# Altium footprint library PcbLib1.PcbLib: 1 footprints
Each footprint in its own frame and in the unit in brackets; x right, y up, seen from the top. Pads: shape width x height; smd on the part's side, far side on the other; paste and mask are expansions set on the pad; w line width, h text height; cw(c..) or ccw(c..) is an arc to the next point about the centre after c.
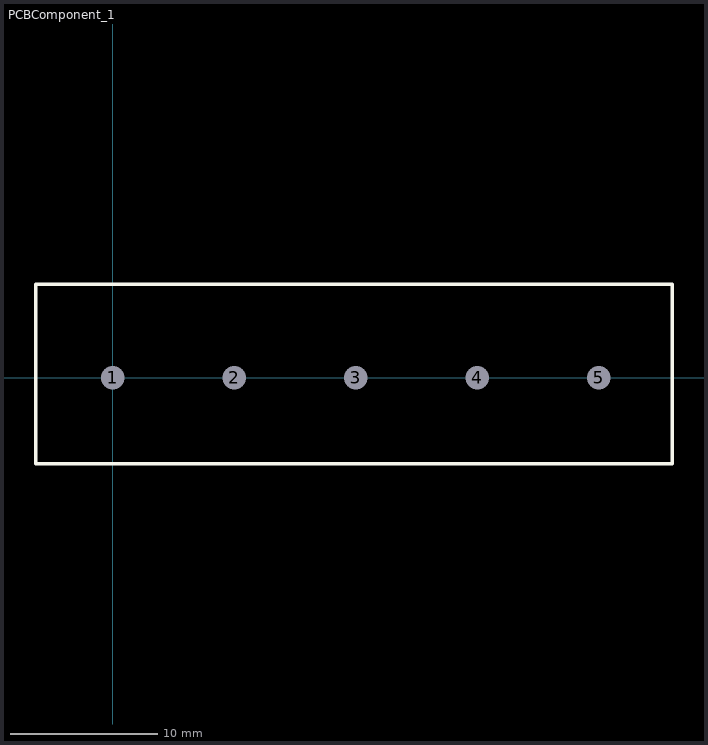
[diagram p0: the footprint, top view; thin cyan lines are the x and y axes]

## PCBComponent_1 [mil]
pads (5):
  round 60 hole 62.99: 1(0,0) 2(324.8,0) 3(649.61,0) 4(974.41,0) 5(1299.21,0)
Top Overlay:
  lines w10: -205,-230 -205,0 -205,250 1495,250 1495,-230 -205,-230